# Altium footprint library Ctrl_FOC1.PcbLib: 35 footprints (part 1 of 3)
Each footprint in its own frame and in the unit in brackets; x right, y up, seen from the top. Pads: shape width x height; smd on the part's side, far side on the other; paste and mask are expansions set on the pad; w line width, h text height; cw(c..) or ccw(c..) is an arc to the next point about the centre after c.
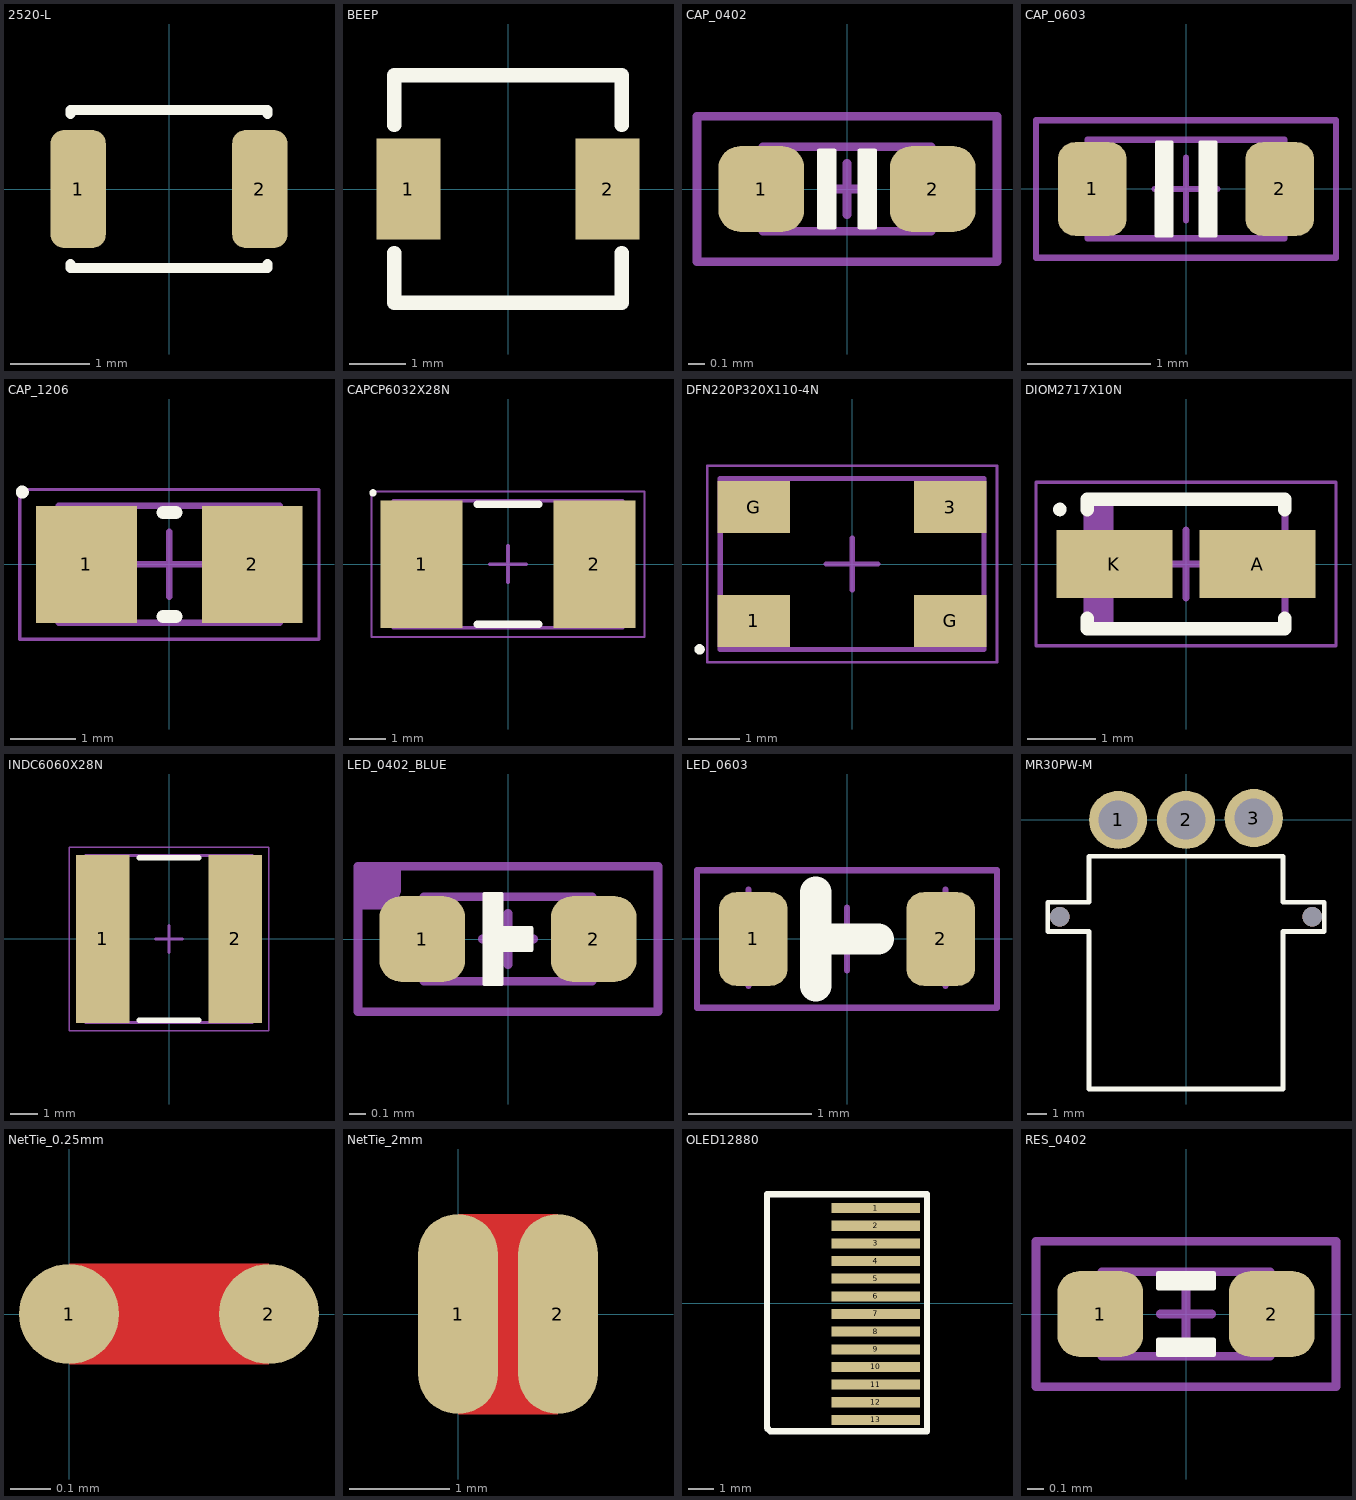
[diagram p0: the footprints below, top view; thin cyan lines are the x and y axes]

## 2520-L [mm]
height 0.8
pads (2):
  rrect50% 0.7x1.5 smd: 1(-1.15,0) 2(1.15,0)
Top Overlay:
  lines w0.127: -1.25,-0.95 -1.25,-1 1.25,-1 1.25,-0.95 ; -1.25,0.95 -1.25,1 1.25,1 1.25,0.95
3D body "User Library-Chip InductorINDC2012X95N.STEP": height 0.92, standoff -0.03, extent -1,-0.6 1,0.6

## BEEP [mil]
height 31.5
pads (2):
  rect 45x70.87 smd: 1(-70,0) 2(70,0)
Top Overlay:
  lines w10: -80,-45 -80,-80 80,-80 80,-45 ; -80,45 -80,80 80,80 80,45
3D body: height 80, standoff 0, extent -80,-80 80,80

## CAP_0402 [mil]
height 21.65
pads (2):
  rrect50% 20x20 smd: 1(-20,0) 2(20,0)
Top Overlay:
  region: 6.5,-9 3,-9 3,9 6.5,9
  region: -6.5,9 -3,9 -3,-9 -6.5,-9
  lines w1: -6.5,-9 -6.5,9 -3,9 -3,-9 -6.5,-9 ; 3,-9 6.5,-9 6.5,9 3,9 3,-9
Mechanical 13:
  lines w2: -6,0 6,0 ; 0,-6 0,6 ; -19.69,-9.84 19.68,-9.84 19.68,9.84 -19.69,9.84 -19.69,-9.84
Mechanical 14:
  lines w2: -35,-17 35,-17 35,17 -35,17 -35,-17
3D body "CAPC1005X05L.step": height 19.68, standoff 0, extent -19.68,-9.84 19.69,9.85

## CAP_0603 [mil]
height 31.5
pads (2):
  rrect50% 22x30 smd: 1(-30,0) 2(30,0)
Top Overlay:
  region: -4.5,15 -9.5,15 -9.5,-15 -4.5,-15
  region: 4.5,-15 9.5,-15 9.5,15 4.5,15
  lines w1: -9.5,-15 -9.5,15 -4.5,15 -4.5,-15 -9.5,-15 ; 4.5,-15 9.5,-15 9.5,15 4.5,15 4.5,-15
Mechanical 13:
  lines w2: -10,0 10,0 ; 0,-10 0,10 ; -31.5,-15.75 -31.5,15.75 31.5,15.75 31.5,-15.75 -31.5,-15.75
Mechanical 14:
  lines w2: -48,-22 -48,22 48,22 48,-22 -48,-22
3D body "CAPC1608X08L.step": height 31.5, standoff 0, extent -31.49,-15.74 31.5,15.75

## CAP_1206 [mm] "Chip Capacitor, 2-Leads, Body 3.20x1.60mm, IPC Medium Density"
height 1.8
pads (2):
  rect 1.55x1.8 smd: 1(-1.275,0) 2(1.275,0)
Top Overlay:
  circle w0.1: c-2.262,1.112 r0.05
  lines w0.2: -0.1,-0.8 0.1,-0.8 ; -0.1,0.8 0.1,0.8
Mechanical 13:
  lines w0.1: -1.7,-0.9 1.7,-0.9 1.7,0.9 -1.7,0.9 -1.7,-0.9
Mechanical 15:
  lines w0.05: -2.3,-1.15 2.3,-1.15 2.3,1.15 -2.3,1.15 -2.3,-1.15
  lines w0.1: -0.5,0 0.5,0 ; 0,-0.5 0,0.5
3D body "1206 SMD Capacitor.STEP": height 1, standoff 0, extent -1.6,-0.8 1.6,0.8

## CAPCP6032X28N [mm] "Chip Capacitor, 2-Leads, Body 6.00x3.20mm, IPC Medium Density"
height 2.8
pads (2):
  rect 2.25x3.5 smd: 1(-2.375,0) 2(2.375,0)
Top Overlay:
  circle w0.1: c-3.712,1.962 r0.05
  lines w0.2: -0.85,-1.65 0.85,-1.65 ; -0.85,1.65 0.85,1.65
Mechanical 13:
  lines w0.1: -3.15,-1.75 3.15,-1.75 3.15,1.75 -3.15,1.75 -3.15,-1.75
Mechanical 15:
  lines w0.05: -3.75,-2 3.75,-2 3.75,2 -3.75,2 -3.75,-2
  lines w0.1: -0.5,0 0.5,0 ; 0,-0.5 0,0.5
3D body "CaseC_6032-28.STEP": height 2.5, standoff 0, extent -3,-1.6 3,1.6

## DFN220P320X110-4N [mm] "DFN, 4-Leads, Body 5.00x3.20mm, Pitch 2.20mm, IPC Medium Density"
height 1.1
pads (4):
  rect 1.4x1 smd: 1(-1.9,-1.1) 3(1.9,1.1) G(-1.9,1.1) G(1.9,-1.1)
Top Overlay:
  circle w0.1: c-2.95,-1.65 r0.05
Mechanical 13:
  lines w0.1: -2.55,-1.65 -2.55,1.65 2.55,1.65 2.55,-1.65 -2.55,-1.65
Mechanical 15:
  lines w0.05: -2.8,-1.9 -2.8,1.9 2.8,1.9 2.8,-1.9 -2.8,-1.9
  lines w0.1: -0.5,0 0.5,0 ; 0,-0.5 0,0.5
3D body "XTAL-OSC-3225.STEP": height 1.1, standoff 0, extent -1.65,-1.3 1.65,1.3

## DIOM2717X10N [mm] "Molded Diode, 2-Leads, Body 2.70x1.65mm, IPC Medium Density"
height 1
pads (2):
  rect 1.7x1 smd: A(1.05,0) K(-1.05,0)
Top Overlay:
  circle w0.1: c-1.85,0.8 r0.05
  lines w0.2: -1.45,-0.8 -1.45,-0.95 1.45,-0.95 1.45,-0.8 ; -1.45,0.8 -1.45,0.95 1.45,0.95 1.45,0.8
Mechanical 13:
  rectangle: -1.45,-0.9 -1.06,0.9
  lines w0.1: -1.45,-0.9 1.45,-0.9 1.45,0.9 -1.45,0.9 -1.45,-0.9
Mechanical 15:
  lines w0.05: -2.2,-1.2 2.2,-1.2 2.2,1.2 -2.2,1.2 -2.2,-1.2
  lines w0.1: -0.5,0 0.5,0 ; 0,-0.5 0,0.5
3D body: height 1, standoff 0, extent -1.45,-0.9 1.45,0.9

## INDC6060X28N [mm] "Chip Inductor, 2-Leads, Body 6.00x6.00mm, IPC Medium Density"
height 2.8
pads (2):
  rect 1.98x6.22 smd: 1(-2.46,0) 2(2.46,0)
Top Overlay:
  lines w0.2: -1.1,-3.01 1.1,-3.01 ; -1.1,3.01 1.1,3.01
Mechanical 13:
  lines w0.1: -3.1,-3.1 -3.1,3.1 3.1,3.1 3.1,-3.1 -3.1,-3.1
Mechanical 15:
  lines w0.05: -3.7,-3.4 -3.7,3.4 3.7,3.4 3.7,-3.4 -3.7,-3.4
  lines w0.1: -0.5,0 0.5,0 ; 0,-0.5 0,0.5
3D body: height 2.8, standoff 0, extent -1.75,-3.1 1.75,3.1
3D body: height 2.8, standoff 0, extent -3.1,-3.1 -1.75,3.1
3D body: height 2.8, standoff 0, extent 1.75,-3.1 3.1,3.1

## LED_0402_BLUE [mil]
height 31.5
pads (2):
  rrect50% 20x20 smd: 1(-20,0) 2(20,0)
Top Overlay:
  region: -5.5,10.5 -1.5,10.5 -1.5,2.5 5.5,2.5 5.5,-2.5 -1.5,-2.5 -1.5,-10.5 -5.5,-10.5
  lines w1: -5.5,-10.5 -5.5,10.5 -1.5,10.5 -1.5,2.5 5.5,2.5 5.5,-2.5 -1.5,-2.5 -1.5,-10.5 -5.5,-10.5
Mechanical 13:
  lines w2: -6,0 6,0 ; 0,-6 0,6 ; -19.69,-9.84 19.68,-9.84 19.68,9.84 -19.69,9.84 -19.69,-9.84
Mechanical 14:
  region: -35,17 -25,17 -25,12 -25,11.01 -25.76,9.17 -27.17,7.76 -29.01,7 -30,7 -35,7
  lines w2: -35,-17 -35,17 35,17 35,-17 -35,-17
3D body "User Library-led_0402LED0402 blue_.STEP": height 17.72, standoff 0, extent -19.88,-9.84 19.89,9.85

## LED_0603 [mil]
height 31.5
pads (2):
  rrect50% 22x30 smd: 1(-30,0) 2(30,0)
Top Overlay:
  lines w10: -10,-15 -10,15 ; -10,0 10,0
Mechanical 13:
  lines w2: -31.5,-15 -31.5,15.75 ; -10,0 10,0 ; 0,-10 0,10 ; 31.5,-15 31.5,15.75
Mechanical 14:
  lines w2: -48,-22 -48,22 48,22 48,-22 -48,-22
3D body "LED0603.STEP": height 23.62, standoff 0, extent -31.89,-15.75 31.89,15.75

## MR30PW-M [mil] "MR30PW-M"
height 31.5
pads (3):
  round 120 hole 80: 1(-140,0) 2(0,0) 3(139.8,3.72)
via -260,-200 diameter 40 hole 40
via 260,-200 diameter 40 hole 40
Top Overlay:
  lines w10: -285,-230 -200,-230 -200,-555 200,-555 200,-230 285,-230 285,-170 200,-170 200,-75 -200,-75 -200,-170 -285,-170 -285,-230
3D body "User Library-Amass MR30-FB.STEP": height 202.36, standoff -2.36, extent -240.15,-481.22 240.16,10.91

## NetTie_0.25mm [mm] "Net tie, 0.25mm"
height 0.8
pads (2):
  round 0.25 smd paste-2 mask+0.102: 1(0,0) 2(0.5,0)
Top Layer:
  region: 0,0.125 0.5,0.125 0.5,-0.125 0,-0.125

## NetTie_2mm [mm] "Net tie, 2mm round"
height 0.8
pads (2):
  oval 0.8x2 smd paste-2 mask+0.102: 1(0,0) 2(1,0)
Top Layer:
  region: 0,1 1,1 1,-1 0,-1

## OLED12880 [mm] "OLED12880"
height 0.8
pads (13):
  rect 3.5x0.4 smd: 1(-7.874,3.766) 2(-7.874,3.066) 3(-7.874,2.366) 4(-7.874,1.666) 5(-7.874,0.966) 6(-7.874,0.266) 7(-7.874,-0.434) 8(-7.874,-1.134) 9(-7.874,-1.834) 10(-7.874,-2.534) 11(-7.874,-3.234) 12(-7.874,-3.934) 13(-7.874,-4.634)
Top Overlay:
  lines w0.254: -12.192,-4.953 -12.192,4.318 -9.779,4.318 -9.652,4.318 -5.842,4.318 -5.842,-5.08 -9.652,-5.08 -9.906,-5.08 -12.065,-5.08 -12.192,-4.953

## RES_0402 [mil]
height 13.78
pads (2):
  rrect50% 20x20 smd: 1(-20,0) 2(20,0)
Top Overlay:
  region: 6.5,-9.5 -6.5,-9.5 -6.5,-6 6.5,-6
  region: -6.5,9.5 6.5,9.5 6.5,6 -6.5,6
  lines w1: -6.5,-9.5 6.5,-9.5 6.5,-6 -6.5,-6 -6.5,-9.5 ; -6.5,6 -6.5,9.5 6.5,9.5 6.5,6 -6.5,6
Mechanical 13:
  lines w2: -6,0 6,0 ; 0,-6 0,6 ; -19.69,-9.84 -19.69,9.84 19.68,9.84 19.68,-9.84 -19.69,-9.84
Mechanical 14:
  lines w2: -35,-17 35,-17 35,17 -35,17 -35,-17
3D body "RESC1005X03L.step": height 13.78, standoff 0, extent -19.68,-9.84 19.69,9.85